# Altium footprint library 35TFT.PcbLib: 1 footprints
Each footprint in its own frame and in the unit in brackets; x right, y up, seen from the top. Pads: shape width x height; smd on the part's side, far side on the other; paste and mask are expansions set on the pad; w line width, h text height; cw(c..) or ccw(c..) is an arc to the next point about the centre after c.
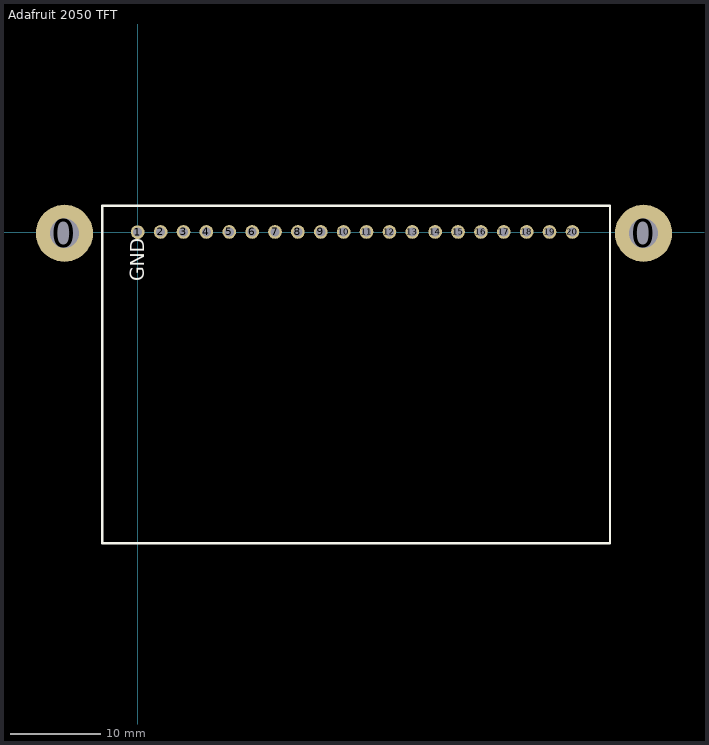
[diagram p0: the footprint, top view; thin cyan lines are the x and y axes]

## Adafruit 2050 TFT [mil]
pads (22):
  round 250 hole 128: 0(-320,-5) 0(2211.75,-5)
  round 60 hole 40: 1(0,0) 2(100.57,1.13) 3(200.57,1.13) 4(300.57,1.13) 5(400.57,1.13) 6(500.57,1.13) 7(600.57,1.13) 8(700.57,1.13) 9(800.57,1.13) 10(900.57,1.13) 11(1000.57,1.13) 12(1100.57,1.13) 13(1200.57,1.13) 14(1300.57,1.13) 15(1400.57,1.13) 16(1500.57,1.13) 17(1600.57,1.13) 18(1700.57,1.13) 19(1800.57,1.13) 20(1900.57,1.13)
Top Overlay:
  lines w10: -155,-1360 2065,-1360 2065,115 -155,115 -155,-1360
  text "GND" at 30,-215 h60